# EAGLE library part PCA9306 (library isystems)
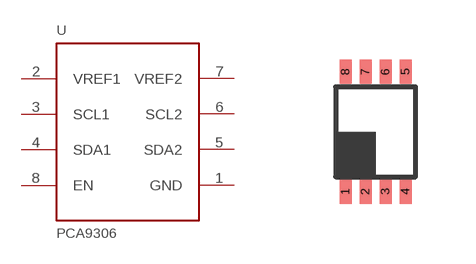
[diagram p3: symbol with the pads of DCU_R-PDSO-G8; footprint DCU_R-PDSO-G8]

Designator prefix U

## PCA9306  [DCU_R-PDSO-G8]
1  GND  sup
2  VREF1  in
3  SCL1
4  SDA1
5  SDA2
6  SCL2
7  VREF2  in
8  EN  in

## Footprint DCU_R-PDSO-G8 (pad centres in mm)
DCU (R-PDSO-G8) PLASTIC SMALL-OUTLINE PACKAGE (DIE DOWN) Source: http://focus.ti.com/lit/ds/symlink/sn74lvc2g53.pdf
smd 0.3 x 0.6: 1 -0.75,-1.5; 2 -0.25,-1.5; 3 0.25,-1.5; 4 0.75,-1.5; 5 0.75,1.5; 6 0.25,1.5; 7 -0.25,1.5; 8 -0.75,1.5